# Altium schematic symbol library Components - 24.04.20 - 00.52.SchLib: 1 symbol
Pins are listed as number, name and electrical type; pins without a type are passive.

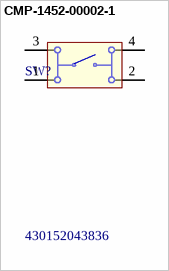
[diagram p0: symbol CMP-1452-00002-1]

## CMP-1452-00002-1
designator SW?, comment 430152043836
WS-TASV SMD Tact Switch 6X6 mm; Manufacturer: Wuerth Elektronik; NoPins: 04; PartNumber: 430152043836; ComponentLink2URL: http://katalog.we-online.de/em/datasheet/4301x2.pdf; ComponentLink1URL: http://www.we-online.com; ComponentLink2Description: Datasheet; ComponentLink1Description: Manufacturer URL; PackageReference: 430152043836
footprint 430152043836 (6*6mm vertical type, SMD, height 4.3mm, salmon actuator, 360gf, T&R)
pins: 1, 2, 3, 4